# EAGLE library part ICM20XXX (library BLTFootprints)
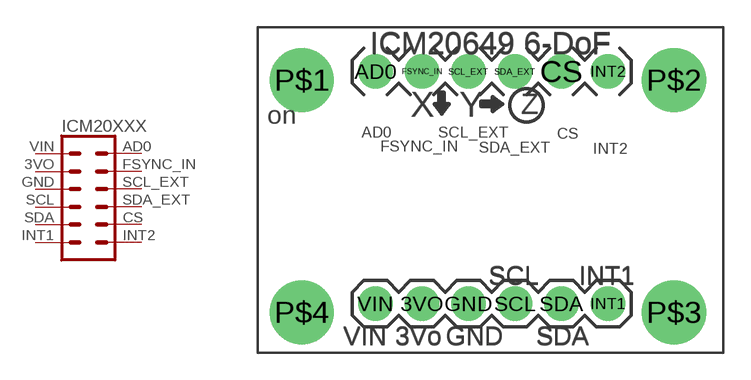
[diagram p3: symbol with the pads of 1X06; footprint 1X06]

Designator prefix -

## ICM20XXX  [1X06]
3VO  3VO  pas
AD0  AD0  pas
CS  CS  pas
FSYNC_IN  FSYNC_IN  pas
GND  GND  pas
INT1  INT1  pas
INT2  INT2  pas
SCL  SCL  pas
SCL_EXT  SCL_EXT  pas
SDA  SDA  pas
SDA_EXT  SDA_EXT  pas
VIN  VCC  pas

## Footprint 1X06 (pad centres in mm)
Plated Through Hole - 6 Pin Specifications: Pin count:6 Pin pitch:0.1" Example device(s): CONN_06
drill 1.016 pad 1.88: 3VO 2.54,0; AD0 0,12.7; CS 10.16,12.7; FSYNC_IN 2.54,12.7; GND 5.08,0; INT1 12.7,0; INT2 12.7,12.7; SCL 7.62,0; SCL_EXT 5.08,12.7; SDA 10.16,0; SDA_EXT 7.62,12.7; VIN 0,0
drill 2.5 pad 3.2: P$1 -4.019,12.229; P$2 16.301,12.229; P$3 16.301,-0.471; P$4 -4.019,-0.471